# Altium footprint library Motor Driver - Stepper.PcbLib: 6 footprints
Each footprint in its own frame and in the unit in brackets; x right, y up, seen from the top. Pads: shape width x height; smd on the part's side, far side on the other; paste and mask are expansions set on the pad; w line width, h text height; cw(c..) or ccw(c..) is an arc to the next point about the centre after c.
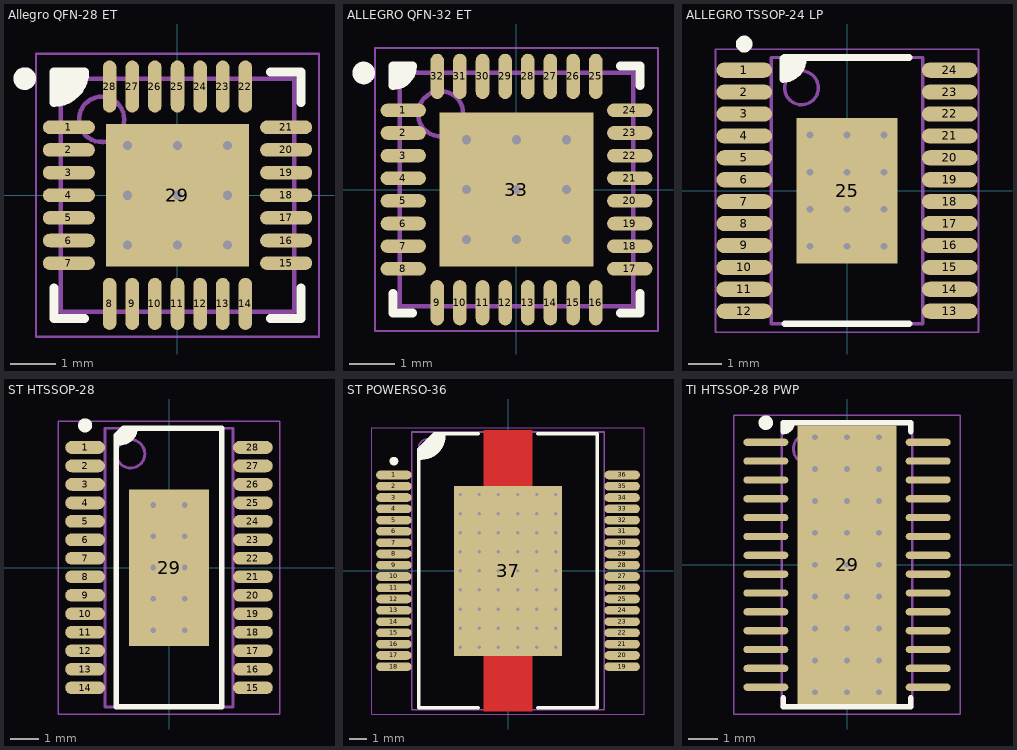
[diagram p0: the footprints below, top view; thin cyan lines are the x and y axes]

## Allegro QFN-28 ET [mm] "QFN, 28-Leads, Body 5.00x5.00mm, Pitch 0.50mm, Thermal Pad 3.15x3.15mm, IPC Medium Density"
height 1
pads (29):
  oval 1.15x0.3 smd: 1(-2.4,1.5) 2(-2.4,1) 3(-2.4,0.5) 4(-2.4,0) 5(-2.4,-0.5) 6(-2.4,-1) 7(-2.4,-1.5) 15(2.4,-1.5) 16(2.4,-1) 17(2.4,-0.5) 18(2.4,0) 19(2.4,0.5) 20(2.4,1) 21(2.4,1.5)
  oval 0.3x1.15 smd: 8(-1.5,-2.4) 9(-1,-2.4) 10(-0.5,-2.4) 11(0,-2.4) 12(0.5,-2.4) 13(1,-2.4) 14(1.5,-2.4) 22(1.5,2.4) 23(1,2.4) 24(0.5,2.4) 25(0,2.4) 26(-0.5,2.4) 27(-1,2.4) 28(-1.5,2.4)
  rect 3.15x3.15 smd: 29(0,0)
via -1.1,1.1 diameter 0.5 hole 0.2
via 0,1.1 diameter 0.5 hole 0.2
via 1.1,1.1 diameter 0.5 hole 0.2
via -1.1,0 diameter 0.5 hole 0.2
via 0,0 diameter 0.5 hole 0.2
via 1.1,0 diameter 0.5 hole 0.2
via -1.1,-1.1 diameter 0.5 hole 0.2
via 0,-1.1 diameter 0.5 hole 0.2
via 1.1,-1.1 diameter 0.5 hole 0.2
Top Overlay:
  circle w0.25: c-3.375,2.575 r0.125
  region: -2.725,2.725 -2.05,2.725 -2.05,2.659 -2.076,2.528 -2.127,2.405 -2.201,2.295 -2.295,2.201 -2.405,2.127 -2.528,2.076 -2.659,2.05 -2.725,2.05
  lines w0.2: -2.725,-2.05 -2.725,-2.725 -2.05,-2.725 ; 2.05,-2.725 2.725,-2.725 2.725,-2.05 ; 2.05,2.725 2.725,2.725 2.725,2.05 ; -2.725,2.05 ccw(c-2.725,2.725) -2.05,2.725 -2.725,2.725 -2.725,2.05
Mechanical 13:
  circle w0.1: c-1.675,1.675 r0.5
  lines w0.1: -2.575,-2.575 -2.575,2.575 2.575,2.575 2.575,-2.575 -2.575,-2.575
Mechanical 15:
  lines w0.05: -3.125,-3.125 -3.125,3.125 3.125,3.125 3.125,-3.125 -3.125,-3.125
  lines w0.1: -0.5,0 0.5,0 ; 0,-0.5 0,0.5
3D body: height 1, standoff 0.01, extent -2.575,-2.575 2.575,2.575

## ALLEGRO QFN-32 ET [mm] "QFN, 32-Leads, Body 5.00x5.00mm, Pitch 0.50mm, Thermal Pad 3.40x3.40mm, IPC Medium Density"
height 1
pads (33):
  oval 1x0.3 smd: 1(-2.5,1.75) 2(-2.5,1.25) 3(-2.5,0.75) 4(-2.5,0.25) 5(-2.5,-0.25) 6(-2.5,-0.75) 7(-2.5,-1.25) 8(-2.5,-1.75) 17(2.5,-1.75) 18(2.5,-1.25) 19(2.5,-0.75) 20(2.5,-0.25) 21(2.5,0.25) 22(2.5,0.75) 23(2.5,1.25) 24(2.5,1.75)
  oval 0.3x1 smd: 9(-1.75,-2.5) 10(-1.25,-2.5) 11(-0.75,-2.5) 12(-0.25,-2.5) 13(0.25,-2.5) 14(0.75,-2.5) 15(1.25,-2.5) 16(1.75,-2.5) 25(1.75,2.5) 26(1.25,2.5) 27(0.75,2.5) 28(0.25,2.5) 29(-0.25,2.5) 30(-0.75,2.5) 31(-1.25,2.5) 32(-1.75,2.5)
  rect 3.4x3.4 smd: 33(0,0)
via -1.1,1.1 diameter 0.5 hole 0.2
via 0,1.1 diameter 0.5 hole 0.2
via 1.1,1.1 diameter 0.5 hole 0.2
via -1.1,0 diameter 0.5 hole 0.2
via 0,0 diameter 0.5 hole 0.2
via 1.1,0 diameter 0.5 hole 0.2
via -1.1,-1.1 diameter 0.5 hole 0.2
via 0,-1.1 diameter 0.5 hole 0.2
via 1.1,-1.1 diameter 0.5 hole 0.2
Top Overlay:
  circle w0.25: c-3.375,2.575 r0.125
  region: -2.725,2.725 -2.3,2.725 -2.3,2.64 -2.365,2.484 -2.484,2.365 -2.64,2.3 -2.725,2.3
  lines w0.2: -2.725,-2.3 -2.725,-2.725 -2.3,-2.725 ; 2.3,-2.725 2.725,-2.725 2.725,-2.3 ; 2.3,2.725 2.725,2.725 2.725,2.3 ; -2.725,2.3 ccw(c-2.725,2.725) -2.3,2.725 -2.725,2.725 -2.725,2.3
Mechanical 13:
  circle w0.1: c-1.675,1.675 r0.5
  lines w0.1: -2.575,-2.575 -2.575,2.575 2.575,2.575 2.575,-2.575 -2.575,-2.575
Mechanical 15:
  lines w0.05: -3.125,-3.125 -3.125,3.125 3.125,3.125 3.125,-3.125 -3.125,-3.125
  lines w0.1: -0.5,0 0.5,0 ; 0,-0.5 0,0.5
3D body: height 1, standoff 0.01, extent -2.575,-2.575 2.575,2.575

## ALLEGRO TSSOP-24 LP [mm] "TSSOP, 24-Leads, Body 7.80x4.40mm, Pitch 0.65mm, Thermal Pad 4.32x3.00mm, IPC Medium Density"
height 1.2
pads (25):
  oval 1.65x0.45 smd: 1(-3.05,3.575) 2(-3.05,2.925) 3(-3.05,2.275) 4(-3.05,1.625) 5(-3.05,0.975) 6(-3.05,0.325) 7(-3.05,-0.325) 8(-3.05,-0.975) 9(-3.05,-1.625) 10(-3.05,-2.275) 11(-3.05,-2.925) 12(-3.05,-3.575) 13(3.05,-3.575) 14(3.05,-2.925) 15(3.05,-2.275) 16(3.05,-1.625) 17(3.05,-0.975) 18(3.05,-0.325) 19(3.05,0.325) 20(3.05,0.975) 21(3.05,1.625) 22(3.05,2.275) 23(3.05,2.925) 24(3.05,3.575)
  rect 3x4.32 smd: 25(0,0)
via 1.1,-1.65 diameter 0.5 hole 0.2
via 0,-1.65 diameter 0.5 hole 0.2
via -1.1,-1.65 diameter 0.5 hole 0.2
via 1.1,-0.55 diameter 0.5 hole 0.2
via 0,-0.55 diameter 0.5 hole 0.2
via -1.1,-0.55 diameter 0.5 hole 0.2
via 1.1,0.55 diameter 0.5 hole 0.2
via 0,0.55 diameter 0.5 hole 0.2
via -1.1,0.55 diameter 0.5 hole 0.2
via 1.1,1.65 diameter 0.5 hole 0.2
via 0,1.65 diameter 0.5 hole 0.2
via -1.1,1.65 diameter 0.5 hole 0.2
Top Overlay:
  circle w0.25: c-3.05,4.35 r0.125
  region: -1.3,3.95 -1.3,3.9 -1.3,3.781 -1.391,3.56 -1.56,3.391 -1.781,3.3 -1.9,3.3 -1.9,3.9
  lines w0.2: -1.85,-3.95 1.85,-3.95 ; -1.3,3.95 -1.3,3.9 cw(c-1.9,3.9) -1.9,3.3 -1.9,3.9 cw(c-1.85,3.9) -1.85,3.95 1.85,3.95
Mechanical 13:
  circle w0.1: c-1.35,3.05 r0.5
  lines w0.1: -2.25,-3.95 2.25,-3.95 2.25,3.95 -2.25,3.95 -2.25,-3.95
Mechanical 15:
  lines w0.05: -3.9,-4.2 3.9,-4.2 3.9,4.2 -3.9,4.2 -3.9,-4.2
  lines w0.1: -0.5,0 0.5,0 ; 0,-0.5 0,0.5
3D body "TSSOP-24.STEP": height 1.2, standoff 0, extent -3.21,-3.9 3.211,3.9

## ST HTSSOP-28 [mm] "HTSSOP, 28-Leads, Body 9.70x4.40mm, Pitch 0.65mm, Thermal Pad 5.50x2.80mm, IPC Medium Density"
height 1.2
pads (29):
  oval 1.4x0.45 smd: 1(-2.95,4.225) 2(-2.95,3.575) 3(-2.95,2.925) 4(-2.95,2.275) 5(-2.95,1.625) 6(-2.95,0.975) 7(-2.95,0.325) 8(-2.95,-0.325) 9(-2.95,-0.975) 10(-2.95,-1.625) 11(-2.95,-2.275) 12(-2.95,-2.925) 13(-2.95,-3.575) 14(-2.95,-4.225) 15(2.95,-4.225) 16(2.95,-3.575) 17(2.95,-2.925) 18(2.95,-2.275) 19(2.95,-1.625) 20(2.95,-0.975) 21(2.95,-0.325) 22(2.95,0.325) 23(2.95,0.975) 24(2.95,1.625) 25(2.95,2.275) 26(2.95,2.925) 27(2.95,3.575) 28(2.95,4.225)
  rect 2.8x5.5 smd: 29(0,0)
via 0.55,-2.2 diameter 0.5 hole 0.2
via -0.55,-2.2 diameter 0.5 hole 0.2
via 0.55,-1.1 diameter 0.5 hole 0.2
via -0.55,-1.1 diameter 0.5 hole 0.2
via 0.55,0 diameter 0.5 hole 0.2
via -0.55,0 diameter 0.5 hole 0.2
via 0.55,1.1 diameter 0.5 hole 0.2
via -0.55,1.1 diameter 0.5 hole 0.2
via 0.55,2.2 diameter 0.5 hole 0.2
via -0.55,2.2 diameter 0.5 hole 0.2
Top Overlay:
  circle w0.25: c-2.95,5 r0.125
  region: -1.5,4.9 -1.2,4.9 -1.2,4.801 -1.276,4.617 -1.417,4.476 -1.601,4.4 -1.7,4.4 -1.8,4.4 -1.8,4.6
  lines w0.2: -1.8,4.4 -1.7,4.4 ccw(c-1.7,4.9) -1.2,4.9 ; -1.85,-4.9 -1.85,4.65 -1.6,4.9 1.85,4.9 1.85,-4.9 -1.85,-4.9
Mechanical 13:
  circle w0.1: c-1.35,4 r0.5
  lines w0.1: -2.25,-4.9 2.25,-4.9 2.25,4.9 -2.25,4.9 -2.25,-4.9
Mechanical 15:
  lines w0.05: -3.9,-5.15 3.9,-5.15 3.9,5.15 -3.9,5.15 -3.9,-5.15
  lines w0.1: -0.5,0 0.5,0 ; 0,-0.5 0,0.5
3D body: height 1.2, standoff 0.01, extent -2.25,-4.9 2.25,4.9

## ST POWERSO-36 [mm] "POWERSO, 36-Leads, Body 15.90x11.00mm, Pitch 0.65mm, Thermal Pad 9.80x6.20mm, IPC Medium Density"
height 3.6
pads (37):
  oval 2.05x0.5 smd: 1(-6.575,5.525) 2(-6.575,4.875) 3(-6.575,4.225) 4(-6.575,3.575) 5(-6.575,2.925) 6(-6.575,2.275) 7(-6.575,1.625) 8(-6.575,0.975) 9(-6.575,0.325) 10(-6.575,-0.325) 11(-6.575,-0.975) 12(-6.575,-1.625) 13(-6.575,-2.275) 14(-6.575,-2.925) 15(-6.575,-3.575) 16(-6.575,-4.225) 17(-6.575,-4.875) 18(-6.575,-5.525) 19(6.575,-5.525) 20(6.575,-4.875) 21(6.575,-4.225) 22(6.575,-3.575) 23(6.575,-2.925) 24(6.575,-2.275) 25(6.575,-1.625) 26(6.575,-0.975) 27(6.575,-0.325) 28(6.575,0.325) 29(6.575,0.975) 30(6.575,1.625) 31(6.575,2.275) 32(6.575,2.925) 33(6.575,3.575) 34(6.575,4.225) 35(6.575,4.875) 36(6.575,5.525)
  rect 6.2x9.8 smd: 37(0,0)
via -2.75,4.4 diameter 0.5 hole 0.2
via -1.65,4.4 diameter 0.5 hole 0.2
via -0.55,4.4 diameter 0.5 hole 0.2
via 0.55,4.4 diameter 0.5 hole 0.2
via 1.65,4.4 diameter 0.5 hole 0.2
via 2.75,4.4 diameter 0.5 hole 0.2
via -2.75,3.3 diameter 0.5 hole 0.2
via -1.65,3.3 diameter 0.5 hole 0.2
via -0.55,3.3 diameter 0.5 hole 0.2
via 0.55,3.3 diameter 0.5 hole 0.2
via 1.65,3.3 diameter 0.5 hole 0.2
via 2.75,3.3 diameter 0.5 hole 0.2
via -2.75,2.2 diameter 0.5 hole 0.2
via -1.65,2.2 diameter 0.5 hole 0.2
via -0.55,2.2 diameter 0.5 hole 0.2
via 0.55,2.2 diameter 0.5 hole 0.2
via 1.65,2.2 diameter 0.5 hole 0.2
via 2.75,2.2 diameter 0.5 hole 0.2
via -2.75,1.1 diameter 0.5 hole 0.2
via -1.65,1.1 diameter 0.5 hole 0.2
via -0.55,1.1 diameter 0.5 hole 0.2
via 0.55,1.1 diameter 0.5 hole 0.2
via 1.65,1.1 diameter 0.5 hole 0.2
via 2.75,1.1 diameter 0.5 hole 0.2
via -2.75,0 diameter 0.5 hole 0.2
via -1.65,0 diameter 0.5 hole 0.2
via -0.55,0 diameter 0.5 hole 0.2
via 0.55,0 diameter 0.5 hole 0.2
via 1.65,0 diameter 0.5 hole 0.2
via 2.75,0 diameter 0.5 hole 0.2
via -2.75,-1.1 diameter 0.5 hole 0.2
via -1.65,-1.1 diameter 0.5 hole 0.2
via -0.55,-1.1 diameter 0.5 hole 0.2
via 0.55,-1.1 diameter 0.5 hole 0.2
via 1.65,-1.1 diameter 0.5 hole 0.2
via 2.75,-1.1 diameter 0.5 hole 0.2
via -2.75,-2.2 diameter 0.5 hole 0.2
via -1.65,-2.2 diameter 0.5 hole 0.2
via -0.55,-2.2 diameter 0.5 hole 0.2
via 0.55,-2.2 diameter 0.5 hole 0.2
via 1.65,-2.2 diameter 0.5 hole 0.2
via 2.75,-2.2 diameter 0.5 hole 0.2
via -2.75,-3.3 diameter 0.5 hole 0.2
via -1.65,-3.3 diameter 0.5 hole 0.2
via -0.55,-3.3 diameter 0.5 hole 0.2
via 0.55,-3.3 diameter 0.5 hole 0.2
via 1.65,-3.3 diameter 0.5 hole 0.2
via 2.75,-3.3 diameter 0.5 hole 0.2
via -2.75,-4.4 diameter 0.5 hole 0.2
via -1.65,-4.4 diameter 0.5 hole 0.2
via -0.55,-4.4 diameter 0.5 hole 0.2
via 0.55,-4.4 diameter 0.5 hole 0.2
via 1.65,-4.4 diameter 0.5 hole 0.2
via 2.75,-4.4 diameter 0.5 hole 0.2
Top Layer:
  region: -1.4,-8.1 -1.4,-4.7 1.4,-4.7 1.4,-8.1
  region: -1.4,8.1 -1.4,4.7 1.4,4.7 1.4,8.1
Top Overlay:
  circle w0.25: c-6.575,6.325 r0.125
  region: -5.15,7 -5.15,6.5 -5.1,6.5 -4.962,6.5 -4.692,6.554 -4.437,6.659 -4.208,6.813 -4.013,7.008 -3.859,7.237 -3.754,7.492 -3.7,7.762 -3.7,7.9 -4.25,7.9
  lines w0.2: -5.15,6.5 -4.97,6.5 ccw(c-4.97,7.77) -3.7,7.77 ; -1.7,-7.9 -5.15,-7.9 -5.15,7 -4.25,7.9 -1.7,7.9 ; 1.7,-7.9 5.15,-7.9 5.15,7.9 1.7,7.9
Top Paste:
  rectangle: -1.2,-8.1 -0.2,-5.2
  region: 1.2,-5.2 0.2,-5.2 0.2,-8.1 1.2,-8.1
  region: 1.2,8.1 0.2,8.1 0.2,5.2 1.2,5.2
  rectangle: -1.2,5.2 -0.2,8.1
Mechanical 13:
  circle w0.1: c-4.65,7.1 r0.5
  lines w0.1: -5.55,-8 -5.55,8 5.55,8 5.55,-8 -5.55,-8
Mechanical 15:
  lines w0.05: -7.85,-8.25 -7.85,8.25 7.85,8.25 7.85,-8.25 -7.85,-8.25
  lines w0.1: -0.5,0 0.5,0 ; 0,-0.5 0,0.5
3D body "POWERSO36.STEP": height 3.4, standoff 0, extent -7.119,-7.85 7.119,7.85

## TI HTSSOP-28 PWP [mm] "HTSSOP, 28-Leads, Body 9.70x4.40mm, Pitch 0.65mm, Thermal Pad 9.60x3.40mm, IPC Medium Density"
height 1.2
pads (29):
  oval 1.55x0.25 smd: 1(-2.8,4.225) 2(-2.8,3.575) 3(-2.8,2.925) 4(-2.8,2.275) 5(-2.8,1.625) 6(-2.8,0.975) 7(-2.8,0.325) 8(-2.8,-0.325) 9(-2.8,-0.975) 10(-2.8,-1.625) 11(-2.8,-2.275) 12(-2.8,-2.925) 13(-2.8,-3.575) 14(-2.8,-4.225) 15(2.8,-4.225) 16(2.8,-3.575) 17(2.8,-2.925) 18(2.8,-2.275) 19(2.8,-1.625) 20(2.8,-0.975) 21(2.8,-0.325) 22(2.8,0.325) 23(2.8,0.975) 24(2.8,1.625) 25(2.8,2.275) 26(2.8,2.925) 27(2.8,3.575) 28(2.8,4.225)
  rect 3.4x9.6 smd paste-0.5 mask-0.5: 29(0,0)
via -1.1,4.4 diameter 0.5 hole 0.2
via 0,4.4 diameter 0.5 hole 0.2
via 1.1,4.4 diameter 0.5 hole 0.2
via -1.1,3.3 diameter 0.5 hole 0.2
via 0,3.3 diameter 0.5 hole 0.2
via 1.1,3.3 diameter 0.5 hole 0.2
via -1.1,2.2 diameter 0.5 hole 0.2
via 0,2.2 diameter 0.5 hole 0.2
via 1.1,2.2 diameter 0.5 hole 0.2
via -1.1,1.1 diameter 0.5 hole 0.2
via 0,1.1 diameter 0.5 hole 0.2
via 1.1,1.1 diameter 0.5 hole 0.2
via -1.1,0 diameter 0.5 hole 0.2
via 0,0 diameter 0.5 hole 0.2
via 1.1,0 diameter 0.5 hole 0.2
via -1.1,-1.1 diameter 0.5 hole 0.2
via 0,-1.1 diameter 0.5 hole 0.2
via 1.1,-1.1 diameter 0.5 hole 0.2
via -1.1,-2.2 diameter 0.5 hole 0.2
via 0,-2.2 diameter 0.5 hole 0.2
via 1.1,-2.2 diameter 0.5 hole 0.2
via -1.1,-3.3 diameter 0.5 hole 0.2
via 0,-3.3 diameter 0.5 hole 0.2
via 1.1,-3.3 diameter 0.5 hole 0.2
via -1.1,-4.4 diameter 0.5 hole 0.2
via 0,-4.4 diameter 0.5 hole 0.2
via 1.1,-4.4 diameter 0.5 hole 0.2
Top Overlay:
  circle w0.25: c-2.8,4.9 r0.125
  region: -1.9,4.9 -1.9,4.84 -1.946,4.73 -2.03,4.646 -2.14,4.6 -2.2,4.6 -2.2,4.9
  lines w0.2: -2.2,-4.6 -2.2,-4.9 2.2,-4.9 2.2,-4.6 ; -1.9,4.9 cw(c-2.2,4.9) -2.2,4.6 ; 2.2,4.6 2.2,4.9 -2.2,4.9 -2.2,4.6 ; -2.2,4.6 -2.2,4.6
Mechanical 13:
  circle w0.1: c-1.35,4 r0.5
  lines w0.1: -2.25,-4.9 -2.25,4.9 2.25,4.9 2.25,-4.9 -2.25,-4.9
Mechanical 15:
  lines w0.05: -3.9,-5.15 -3.9,5.15 3.9,5.15 3.9,-5.15 -3.9,-5.15
  lines w0.1: -0.5,0 0.5,0 ; 0,-0.5 0,0.5
3D body "TSSOP-28.STEP": height 1.2, standoff 0, extent -3.21,-4.85 3.211,4.85